# EAGLE library part W237-6 (library con-wago-500)
WAGO SCREW CLAMP
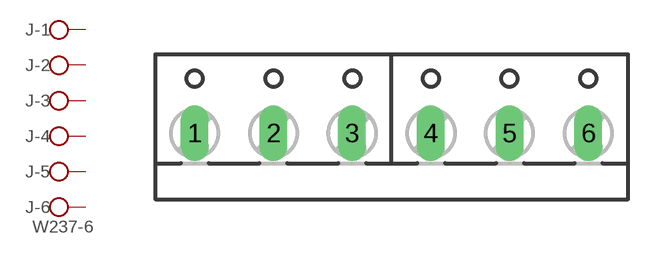
[diagram p1: symbol with the pads of W237-6; footprint W237-6]

Designator prefix J; gates -1=KL -2=KL -3=KL -4=KL -5=KL -6=KL+V

## W237-6  [W237-6]
1  -1:KL  pas
2  -2:KL  pas
3  -3:KL  pas
4  -4:KL  pas
5  -5:KL  pas
6  -6:KL  pas

## Footprint W237-6 (pad centres in mm)
WAGO SCREW CLAMP
drill 1.194 long: 1 -12.5,-1.27; 2 -7.5,-1.27; 3 -2.5,-1.27; 4 2.5,-1.27; 5 7.5,-1.27; 6 12.5,-1.27